# Altium schematic symbol library PLCC-2.SchLib: 1 symbol
Pins are listed as number, name and electrical type; pins without a type are passive.

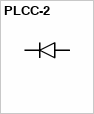
[diagram p0: symbol PLCC-2]

## PLCC-2
designator ?
footprint PLCC-2
pins: A, C